# Altium footprint library NT-0.4mm.PcbLib: 1 footprints
Each footprint in its own frame and in the unit in brackets; x right, y up, seen from the top. Pads: shape width x height; smd on the part's side, far side on the other; paste and mask are expansions set on the pad; w line width, h text height; cw(c..) or ccw(c..) is an arc to the next point about the centre after c.
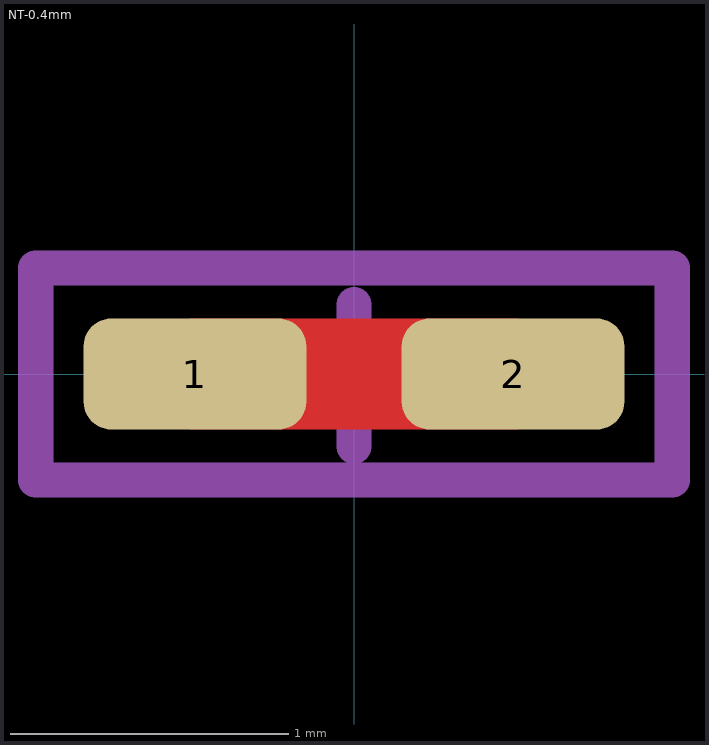
[diagram p0: the footprint, top view; thin cyan lines are the x and y axes]

## NT-0.4mm [mm] "NetTie 0.4mm"
pads (2):
  rrect50% 0.8x0.4 smd: 1(-0.572,0) 2(0.572,0)
Top Layer:
  lines w0.4: -0.572,0 0.572,0
Mechanical 13:
  lines w0.127: -1.143,-0.381 1.143,-0.381 1.143,0.381 -1.143,0.381 -1.143,-0.381
Mechanical 15:
  lines w0.127: -0.254,-0.005 0.254,-0.005 ; 0,-0.259 0,0.249 ; -1.143,-0.381 -1.143,0.381 1.143,0.381 1.143,-0.381 -1.143,-0.381
Mechanical 17:
  text "'.Designator'" at -1.143,-0.127 h0.2